# EAGLE library part WM-N-BM-09 (library Spark)
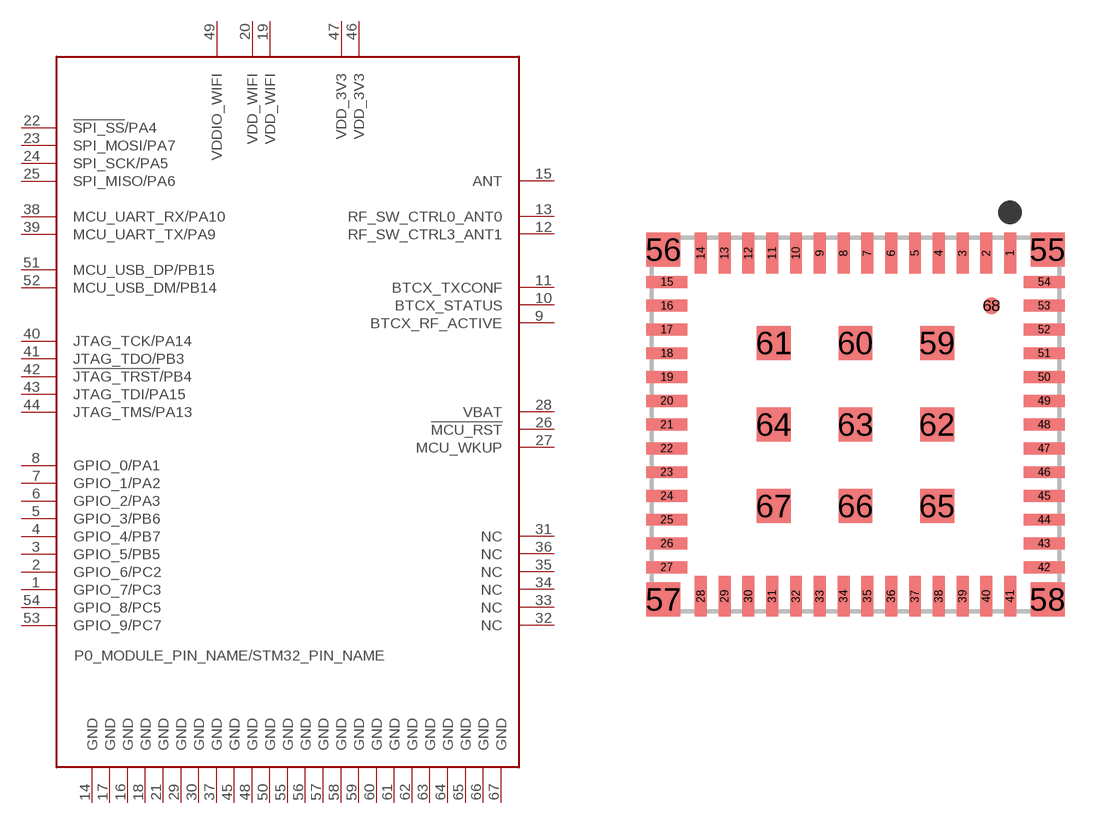
[diagram p12: symbol with the pads of WM-N-BM-09; footprint WM-N-BM-09]

Designator prefix U

## WM-N-BM-09  [WM-N-BM-09]
1  GPIO_7/PC3
2  GPIO_6/PC2
3  GPIO_5/PB5
4  GPIO_4/PB7
5  GPIO_3/PB6
6  GPIO_2/PA3
7  GPIO_1/PA2
8  GPIO_0/PA1
9  BTCX_RF_ACTIVE
10  BTCX_STATUS
11  BTCX_TXCONF
12  RF_SW_CTRL3_ANT1
13  RF_SW_CTRL0_ANT0
14  GND
15  ANT
16  GND
17  GND
18  GND
19  VDD_WIFI
20  VDD_WIFI
21  GND
22  !SPI_SS!/PA4
23  SPI_MOSI/PA7
24  SPI_SCK/PA5
25  SPI_MISO/PA6
26  !MCU_RST
27  MCU_WKUP
28  VBAT
29  GND
30  GND
31  NC
32  NC
33  NC
34  NC
35  NC
36  NC
37  GND
38  MCU_UART_RX/PA10
39  MCU_UART_TX/PA9
40  JTAG_TCK/PA14
41  JTAG_TDO/PB3
42  !JTAG_TRST!/PB4
43  JTAG_TDI/PA15
44  JTAG_TMS/PA13
45  GND
46  VDD_3V3
47  VDD_3V3
48  GND
49  VDDIO_WIFI
50  GND
51  MCU_USB_DP/PB15
52  MCU_USB_DM/PB14
53  GPIO_9/PC7
54  GPIO_8/PC5
55  GND
56  GND
57  GND
58  GND
59  GND
60  GND
61  GND
62  GND
63  GND
64  GND
65  GND
66  GND
67  GND

## Footprint WM-N-BM-09 (pad centres in mm)
WM-N-BM-09
smd 0.35 x 1.2: 1 4.55,5.05; 2 3.85,5.05; 3 3.15,5.05; 4 2.45,5.05; 5 1.75,5.05; 6 1.05,5.05; 7 0.35,5.05; 8 -0.35,5.05; 9 -1.05,5.05; 10 -1.75,5.05; 11 -2.45,5.05; 12 -3.15,5.05; 13 -3.85,5.05; 14 -4.55,5.05; 28 -4.55,-5.05; 29 -3.85,-5.05; 30 -3.15,-5.05; 31 -2.45,-5.05; 32 -1.75,-5.05; 33 -1.05,-5.05; 34 -0.35,-5.05; 35 0.35,-5.05; 36 1.05,-5.05; 37 1.75,-5.05; 38 2.45,-5.05; 39 3.15,-5.05; 40 3.85,-5.05; 41 4.55,-5.05
smd 1.2 x 0.35: 15 -5.55,4.2; 16 -5.55,3.5; 17 -5.55,2.8; 18 -5.55,2.1; 19 -5.55,1.4; 20 -5.55,0.7; 21 -5.55,0; 22 -5.55,-0.7; 23 -5.55,-1.4; 24 -5.55,-2.1; 25 -5.55,-2.8; 26 -5.55,-3.5; 27 -5.55,-4.2; 42 5.55,-4.2; 43 5.55,-3.5; 44 5.55,-2.8; 45 5.55,-2.1; 46 5.55,-1.4; 47 5.55,-0.7; 48 5.55,0; 49 5.55,0.7; 50 5.55,1.4; 51 5.55,2.1; 52 5.55,2.8; 53 5.55,3.5; 54 5.55,4.2
smd 1 x 1: 55 5.65,5.15; 56 -5.65,5.15; 57 -5.65,-5.15; 58 5.65,-5.15; 59 2.4,2.4; 60 0,2.4; 61 -2.4,2.4; 62 2.4,0; 63 0,0; 64 -2.4,0; 65 2.4,-2.4; 66 0,-2.4; 67 -2.4,-2.4
smd 0.5 x 0.5: 68 4,3.5